# Altium schematic symbol library MergenElektronik_Modules_LoRas.SchLib: 1 symbol
Pins are listed as number, name and electrical type; pins without a type are passive.

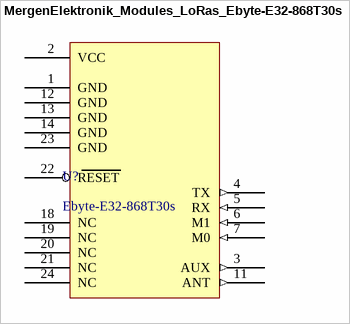
[diagram p0: symbol MergenElektronik_Modules_LoRas_Ebyte-E32-868T30s]

## MergenElektronik_Modules_LoRas_Ebyte-E32-868T30s
designator U?, comment Ebyte-E32-868T30s
Mergen Elektronik - Modules - LoRas - Ebyte-E32-868T30s; Manufacturer: Ebyte; Distance: 8 km; Interface: UART; Power: 30dBm; Frequency: 862-893MHz; IC: SX1276; Manufacturer Number: E32-868T30s
footprint MergenElektronik_Modules_LoRas_Ebyte-E32-xxxxT30x (Ebyte-E32-xxxxT30x)
pins: 1 GND (power), 2 VCC (power), 3 AUX (out), 4 TX (out), 5 RX (in), 6 M1 (in), 7 M0 (in), 11 ANT (out), 12 GND (power), 13 GND (power), 14 GND (power), 18 NC, 19 NC, 20 NC, 21 NC, 22 RESET, 23 GND (power), 24 NC